# Altium footprint library LFCSP-28_5x5x05P.PcbLib: 1 footprints
Each footprint in its own frame and in the unit in brackets; x right, y up, seen from the top. Pads: shape width x height; smd on the part's side, far side on the other; paste and mask are expansions set on the pad; w line width, h text height; cw(c..) or ccw(c..) is an arc to the next point about the centre after c.
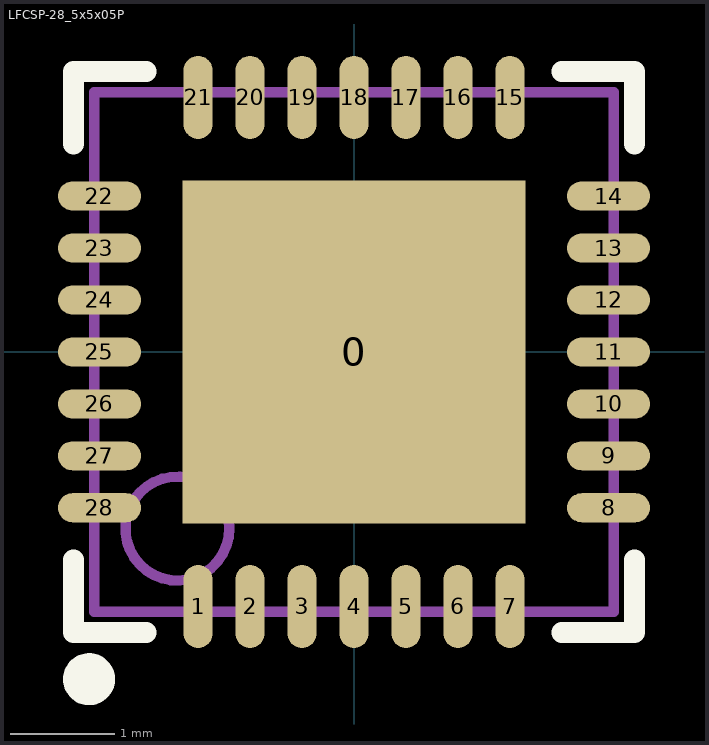
[diagram p0: the footprint, top view; thin cyan lines are the x and y axes]

## LFCSP-28_5x5x05P [mm]
pads (29):
  rect 3.3x3.3 smd mask+0.051: 0(0,0)
  oval 0.28x0.8 smd mask+0.051: 1(-1.5,-2.45) 2(-1,-2.45) 3(-0.5,-2.45) 4(0,-2.45) 5(0.5,-2.45) 6(1,-2.45) 7(1.5,-2.45) 15(1.5,2.45) 16(1,2.45) 17(0.5,2.45) 18(0,2.45) 19(-0.5,2.45) 20(-1,2.45) 21(-1.5,2.45)
  oval 0.8x0.28 smd mask+0.051: 8(2.45,-1.5) 9(2.45,-1) 10(2.45,-0.5) 11(2.45,0) 12(2.45,0.5) 13(2.45,1) 14(2.45,1.5) 22(-2.45,1.5) 23(-2.45,1) 24(-2.45,0.5) 25(-2.45,0) 26(-2.45,-0.5) 27(-2.45,-1) 28(-2.45,-1.5)
Top Overlay:
  circle w0.25: c-2.55,-3.15 r0.125
  lines w0.2: -2.7,-2 -2.7,-2.7 -2,-2.7 ; -2.7,2 -2.7,2.7 -2,2.7 ; 2,-2.7 2.7,-2.7 2.7,-2 ; 2,2.7 2.7,2.7 2.7,2
Mechanical 13:
  circle w0.1: c-1.7,-1.7 r0.5
  lines w0.1: -2.5,-2.5 2.5,-2.5 2.5,2.5 -2.5,2.5 -2.5,-2.5